# Altium footprint library 3_pin_Header_Pcb.PcbLib: 1 footprints
Each footprint in its own frame and in the unit in brackets; x right, y up, seen from the top. Pads: shape width x height; smd on the part's side, far side on the other; paste and mask are expansions set on the pad; w line width, h text height; cw(c..) or ccw(c..) is an arc to the next point about the centre after c.
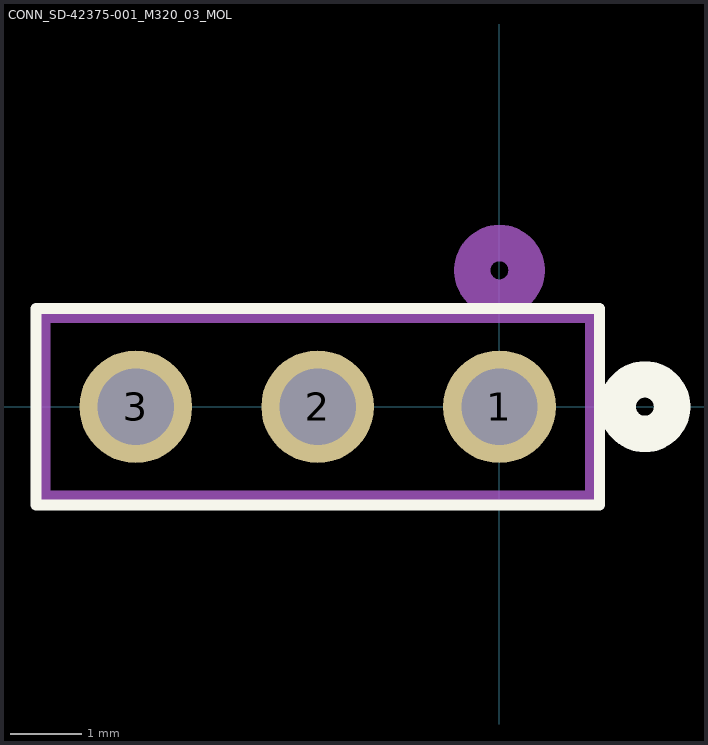
[diagram p0: the footprint, top view; thin cyan lines are the x and y axes]

## CONN_SD-42375-001_M320_03_MOL [mil]
pads (3):
  round 62 hole 42: 1(0,0) 2(-100,0) 3(-200,0)
Top Overlay:
  lines w6: -255,-54 55,-54 55,54 -255,54 -255,-54
  lines w20: 65,0 ccw(c80,0) 95,0 ccw(c80,0) 65,0
Bottom Overlay:
  lines w20: 65,0 ccw(c80,0) 95,0 ccw(c80,0) 65,0
Assembly Top:
  lines w6: -250,-49 50,-49 50,49 -250,49 -250,-49
  lines w20: -15,75 ccw(c0,75) 15,75 ccw(c0,75) -15,75